# Altium footprint library IMPORT PCB1.PcbLib: 21 footprints (part 1 of 2)
Each footprint in its own frame and in the unit in brackets; x right, y up, seen from the top. Pads: shape width x height; smd on the part's side, far side on the other; paste and mask are expansions set on the pad; w line width, h text height; cw(c..) or ccw(c..) is an arc to the next point about the centre after c.
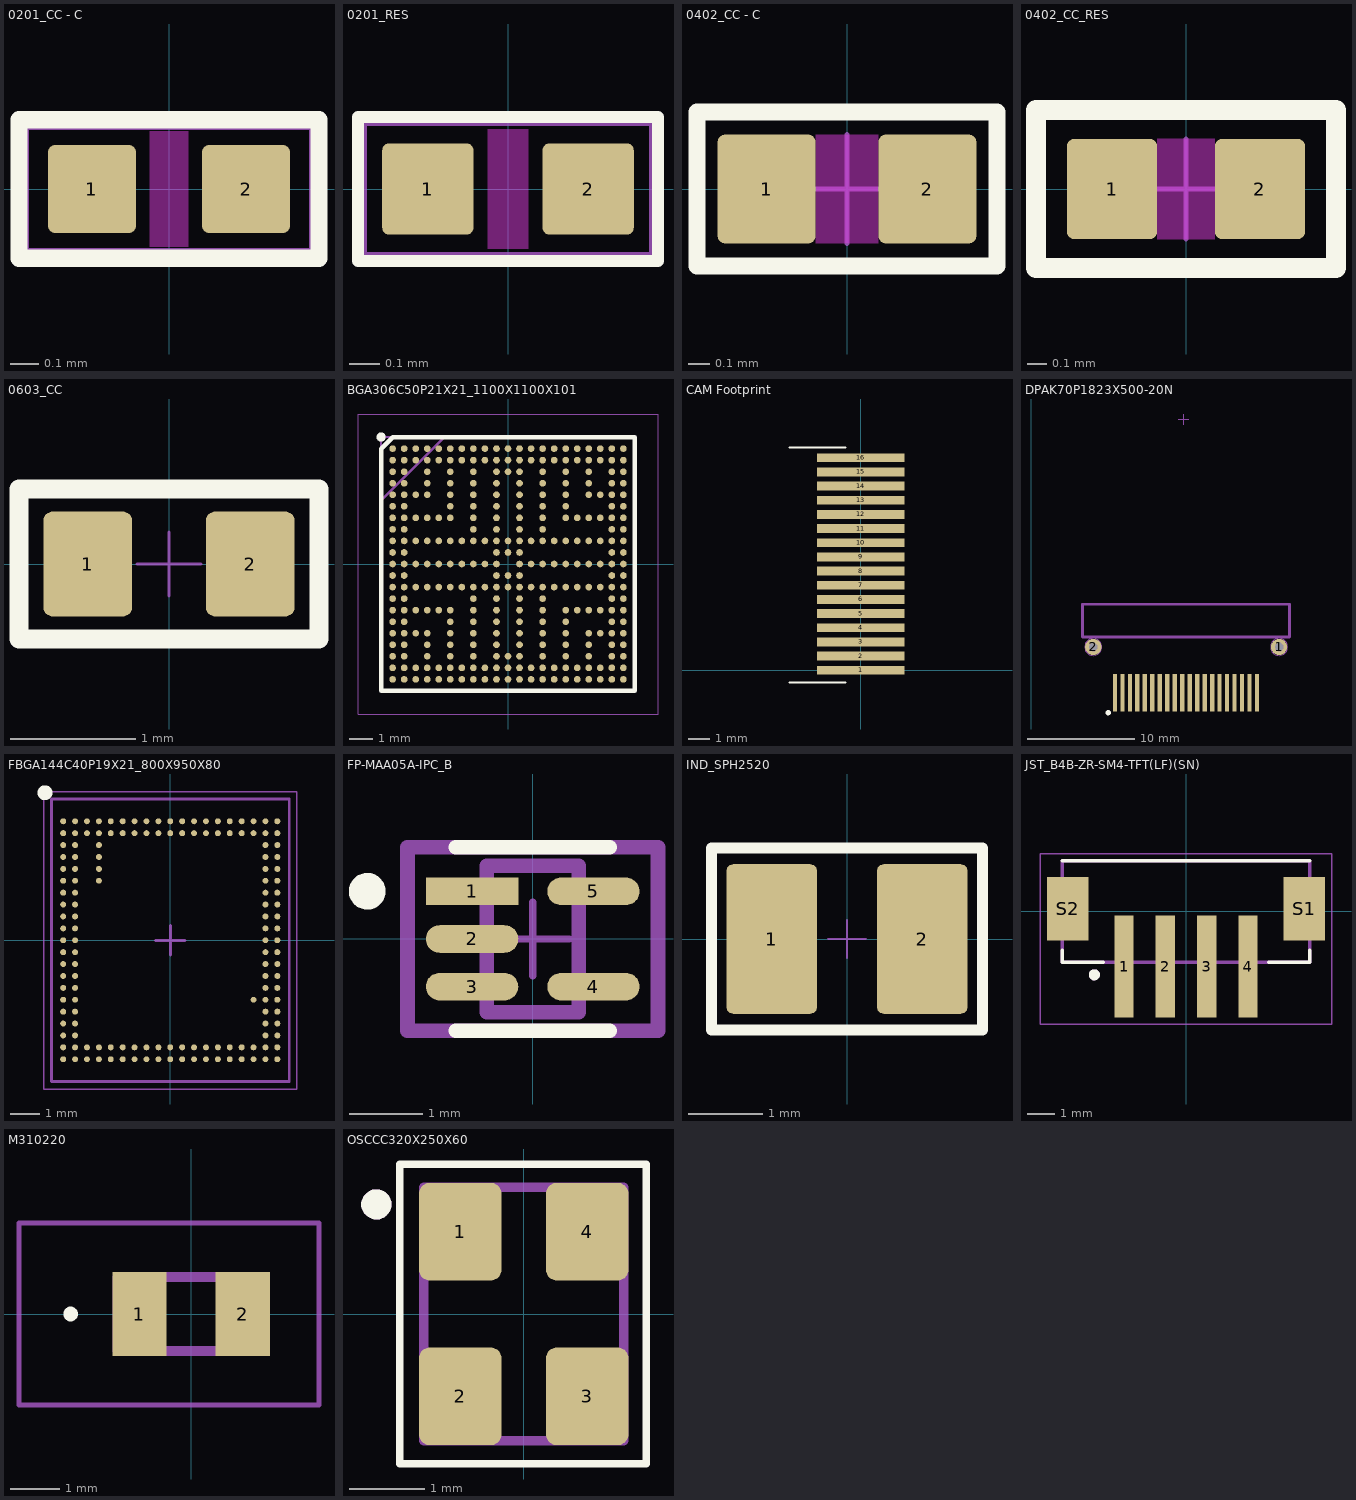
[diagram p0: the footprints below, top view; thin cyan lines are the x and y axes]

## 0201_CC - C [mil] "0201_CC\By AAR"
pads (2):
  rrect15% 12x12 smd mask+1.97: 1(-10.51,0) 2(10.51,0)
Top Layer keep-out:
  region: -2.64,7.87 -2.64,-7.87 2.64,-7.87 2.64,7.87
  region: -2.64,7.87 -2.64,-7.87 2.64,-7.87 2.64,7.87
Top Overlay:
  lines w2.36: -20.47,-9.45 -20.47,9.45 20.47,9.45 20.47,-9.45 -20.47,-9.45
Mechanical 11:
  lines w1.18: -19.68,-8.66 -19.68,8.66 19.68,8.66 19.68,-8.66 -19.68,-8.66
3D body "User Library-CerCaps_0201.STEP": height 12.3, standoff -0.49, extent -14.17,-6.39 14.18,6.4

## 0201_RES [mil] "0201_CC\By AAR"
pads (2):
  rrect15% 12x12 smd mask+1.97: 1(-10.51,0) 2(10.51,0)
Top Layer keep-out:
  region: -2.64,7.87 -2.64,-7.87 2.64,-7.87 2.64,7.87
  region: -2.64,7.87 -2.64,-7.87 2.64,-7.87 2.64,7.87
Top Overlay:
  lines w1.57: -19.68,-9.45 19.68,-9.45 19.68,9.45 -19.68,9.45 -19.68,-9.45
Mechanical 11:
  lines w0.79: -18.9,-8.66 18.9,-8.66 18.9,8.66 -18.9,8.66 -18.9,-8.66
3D body "User Library-User Library-0201_Res.STEP": height 12.01, standoff 0, extent -17.33,-5.91 17.32,5.9

## 0402_CC - C [mil] "0402_CC\By AAR"
pads (2):
  rrect15% 18x20 smd mask+1.97: 1(-14.76,0) 2(14.76,0)
Top Layer keep-out:
  region: -5.75,10 -5.75,-10 5.75,-10 5.75,10
  region: -5.75,10 -5.75,-10 5.75,-10 5.75,10
Top Overlay:
  lines w3.15: -27.56,-14.17 -27.56,14.17 27.56,14.17 27.56,-14.17 -27.56,-14.17
Mechanical 9:
  lines w1: -10,0 10,0 ; 0,-10 0,10
3D body "User Library-CerCaps_0402.STEP": height 20.18, standoff -0.49, extent -23.42,-10.33 23.43,10.34

## 0402_CC_RES [mil] "0402_CC_INDUCTOR\By AAR"
pads (2):
  rrect15% 18x20 smd mask+3.15: 1(-14.76,0) 2(14.76,0)
Top Layer keep-out:
  region: -5.75,10 -5.75,-10 5.75,-10 5.75,10
  region: -5.75,10 -5.75,-10 5.75,-10 5.75,10
Top Overlay:
  lines w3.94: -29.92,-15.75 29.92,-15.75 29.92,15.75 -29.92,15.75 -29.92,-15.75
Mechanical 9:
  lines w1: -10,0 10,0 ; 0,-10 0,10
3D body "742843122.stp": height 18.9, standoff -0.79, extent -19.68,-9.85 19.69,9.84

## 0603_CC [mil] "CAP_NP_0603_CC_DISCRETE_1MM_150\By AAR"
pads (2):
  rrect20% 28x33 smd mask+3.15: 1(-25.59,0) 2(25.59,0)
Top Overlay:
  lines w5.91: -47.24,-23.62 47.24,-23.62 47.24,23.62 -47.24,23.62 -47.24,-23.62
Mechanical 9:
  lines w1: -10,0 10,0 ; 0,-10 0,10
3D body "User Library-CerCaps_0603.STEP": height 31.99, standoff -0.49, extent -36.61,-16.23 36.62,16.25

## BGA306C50P21X21_1100X1100X101 [mm]
pads (306):
  round 0.29 smd: A1(-5,5) A2(-4.5,5) A3(-4,5) A4(-3.5,5) A5(-3,5) A6(-2.5,5) A7(-2,5) A8(-1.5,5) A9(-1,5) A10(-0.5,5) A11(0,5) A12(0.5,5) A13(1,5) A14(1.5,5) A15(2,5) A16(2.5,5) A17(3,5) A18(3.5,5) A19(4,5) A20(4.5,5) A21(5,5) AA1(-5,-5) AA2(-4.5,-5) AA3(-4,-5) AA4(-3.5,-5) AA5(-3,-5) AA6(-2.5,-5) AA7(-2,-5) AA8(-1.5,-5) AA9(-1,-5) AA10(-0.5,-5) AA11(0,-5) AA12(0.5,-5) AA13(1,-5) AA14(1.5,-5) AA15(2,-5) AA16(2.5,-5) AA17(3,-5) AA18(3.5,-5) AA19(4,-5) AA20(4.5,-5) AA21(5,-5) B1(-5,4.5) B2(-4.5,4.5) B3(-4,4.5) B4(-3.5,4.5) B5(-3,4.5) B6(-2.5,4.5) B7(-2,4.5) B8(-1.5,4.5) B9(-1,4.5) B10(-0.5,4.5) B11(0,4.5) B12(0.5,4.5) B13(1,4.5) B14(1.5,4.5) B15(2,4.5) B16(2.5,4.5) B17(3,4.5) B18(3.5,4.5) B19(4,4.5) B20(4.5,4.5) B21(5,4.5) C1(-5,4) C2(-4.5,4) C4(-3.5,4) C6(-2.5,4) C8(-1.5,4) C10(-0.5,4) C11(0,4) C12(0.5,4) C14(1.5,4) C16(2.5,4) C18(3.5,4) C20(4.5,4) C21(5,4) D1(-5,3.5) D2(-4.5,3.5) D4(-3.5,3.5) D6(-2.5,3.5) D8(-1.5,3.5) D10(-0.5,3.5) D12(0.5,3.5) D14(1.5,3.5) D16(2.5,3.5) D18(3.5,3.5) D20(4.5,3.5) D21(5,3.5) E1(-5,3) E2(-4.5,3) E3(-4,3) E4(-3.5,3) E6(-2.5,3) E8(-1.5,3) E10(-0.5,3) E12(0.5,3) E14(1.5,3) E16(2.5,3) E18(3.5,3) E19(4,3) E20(4.5,3) E21(5,3) F1(-5,2.5) F2(-4.5,2.5) F6(-2.5,2.5) F8(-1.5,2.5) F10(-0.5,2.5) F12(0.5,2.5) F14(1.5,2.5) F16(2.5,2.5) F20(4.5,2.5) F21(5,2.5) G1(-5,2) G2(-4.5,2) G3(-4,2) G4(-3.5,2) G5(-3,2) G6(-2.5,2) G8(-1.5,2) G10(-0.5,2) G12(0.5,2) G14(1.5,2) G16(2.5,2) G17(3,2) G18(3.5,2) G19(4,2) G20(4.5,2) G21(5,2) H1(-5,1.5) H2(-4.5,1.5) H8(-1.5,1.5) H10(-0.5,1.5) H12(0.5,1.5) H14(1.5,1.5) H20(4.5,1.5) H21(5,1.5) J1(-5,1) J2(-4.5,1) J3(-4,1) J4(-3.5,1) J5(-3,1) J6(-2.5,1) J7(-2,1) J8(-1.5,1) J9(-1,1) J10(-0.5,1) J11(0,1) J12(0.5,1) J13(1,1) J14(1.5,1) J15(2,1) J16(2.5,1) J17(3,1) J18(3.5,1) J19(4,1) J20(4.5,1) J21(5,1) K1(-5,0.5) K2(-4.5,0.5) K10(-0.5,0.5) K11(0,0.5) K12(0.5,0.5) K20(4.5,0.5) K21(5,0.5) L1(-5,0) L2(-4.5,0) L3(-4,0) L4(-3.5,0) L5(-3,0) L6(-2.5,0) L7(-2,0) L8(-1.5,0) L9(-1,0) L10(-0.5,0) L12(0.5,0) L13(1,0) L14(1.5,0) L15(2,0) L16(2.5,0) L17(3,0) L18(3.5,0) L19(4,0) L20(4.5,0) L21(5,0) M1(-5,-0.5) M2(-4.5,-0.5) M10(-0.5,-0.5) M11(0,-0.5) M12(0.5,-0.5) M20(4.5,-0.5) M21(5,-0.5) N1(-5,-1) N2(-4.5,-1) N3(-4,-1) N4(-3.5,-1) N5(-3,-1) N6(-2.5,-1) N7(-2,-1) N8(-1.5,-1) N9(-1,-1) N10(-0.5,-1) N11(0,-1) N12(0.5,-1) N13(1,-1) N14(1.5,-1) N15(2,-1) N16(2.5,-1) N17(3,-1) N18(3.5,-1) N19(4,-1) N20(4.5,-1) N21(5,-1) P1(-5,-1.5) P2(-4.5,-1.5) P8(-1.5,-1.5) P10(-0.5,-1.5) P12(0.5,-1.5) P14(1.5,-1.5) P20(4.5,-1.5) P21(5,-1.5) R1(-5,-2) R2(-4.5,-2) R3(-4,-2) R4(-3.5,-2) R5(-3,-2) R6(-2.5,-2) R8(-1.5,-2) R10(-0.5,-2) R12(0.5,-2) R14(1.5,-2) R16(2.5,-2) R17(3,-2) R18(3.5,-2) R19(4,-2) R20(4.5,-2) R21(5,-2) T1(-5,-2.5) T2(-4.5,-2.5) T6(-2.5,-2.5) T8(-1.5,-2.5) T10(-0.5,-2.5) T12(0.5,-2.5) T14(1.5,-2.5) T16(2.5,-2.5) T20(4.5,-2.5) T21(5,-2.5) U1(-5,-3) U2(-4.5,-3) U3(-4,-3) U4(-3.5,-3) U6(-2.5,-3) U8(-1.5,-3) U10(-0.5,-3) U12(0.5,-3) U14(1.5,-3) U16(2.5,-3) U18(3.5,-3) U19(4,-3) U20(4.5,-3) U21(5,-3) V1(-5,-3.5) V2(-4.5,-3.5) V4(-3.5,-3.5) V6(-2.5,-3.5) V8(-1.5,-3.5) V10(-0.5,-3.5) V12(0.5,-3.5) V14(1.5,-3.5) V16(2.5,-3.5) V18(3.5,-3.5) V20(4.5,-3.5) V21(5,-3.5) W1(-5,-4) W2(-4.5,-4) W4(-3.5,-4) W6(-2.5,-4) W8(-1.5,-4) W10(-0.5,-4) W11(0,-4) W12(0.5,-4) W14(1.5,-4) W16(2.5,-4) W18(3.5,-4) W20(4.5,-4) W21(5,-4) Y1(-5,-4.5) Y2(-4.5,-4.5) Y3(-4,-4.5) Y4(-3.5,-4.5) Y5(-3,-4.5) Y6(-2.5,-4.5) Y7(-2,-4.5) Y8(-1.5,-4.5) Y9(-1,-4.5) Y10(-0.5,-4.5) Y11(0,-4.5) Y12(0.5,-4.5) Y13(1,-4.5) Y14(1.5,-4.5) Y15(2,-4.5) Y16(2.5,-4.5) Y17(3,-4.5) Y18(3.5,-4.5) Y19(4,-4.5) Y20(4.5,-4.5) Y21(5,-4.5)
Top Overlay:
  circle w0.2: c-5.5,5.5 r0.1
  lines w0.2: -5.5,-5.5 -5.5,5 -5,5.5 5.5,5.5 5.5,-5.5 -5.5,-5.5
Mechanical 15:
  lines w0.1: -5.5,2.75 -2.75,5.5 ; -5.5,-5.5 -5.5,5.5 5.5,5.5 5.5,-5.5 -5.5,-5.5
Mechanical 20:
  lines w0.05: -6.5,-6.5 -6.5,6.5 6.5,6.5 6.5,-6.5 -6.5,-6.5
3D body "MIMX8MN5DVPIZAA.stp": height 1.01, standoff 0, extent -5.5,-5.5 5.5,5.5

## CAM Footprint [mm]
pads (16):
  rect 4x0.4 smd: 1(0,0) 2(0,0.647) 3(0,1.295) 4(0,1.942) 5(0,2.59) 6(0,3.237) 7(0,3.885) 8(0,4.532) 9(0,5.18) 10(0,5.827) 11(0,6.475) 12(0,7.122) 13(0,7.77) 14(0,8.417) 15(0,9.065) 16(0,9.712)
Top Overlay:
  lines w0.1: -3.263,-0.559 -0.698,-0.559 ; -3.263,10.185 -0.698,10.185
  text "." at -0.038,-0.584 h0.38

## DPAK70P1823X500-20N [mm] "D3-PAK, 20-Pads, Body 16.41x17.53mm (max), IPC Medium Density"
height 5
pads (22):
  rect 0.4x3.5 smd: 1(7.82,-29.625) 2(8.52,-29.625) 3(9.22,-29.625) 4(9.92,-29.625) 5(10.62,-29.625) 6(11.32,-29.625) 7(12.02,-29.625) 8(12.72,-29.625) 9(13.42,-29.625) 10(14.12,-29.625) 11(14.82,-29.625) 12(15.52,-29.625) 13(16.22,-29.625) 14(16.92,-29.625) 15(17.62,-29.625) 16(18.32,-29.625) 17(19.02,-29.625) 18(19.72,-29.625) 19(20.42,-29.625) 20(21.12,-29.625)
  round 1.524 hole 0.8: 1(23.19,-25.34) 2(5.79,-25.34)
Top Overlay:
  circle w0.25: c7.19,-31.49 r0.125
Mechanical 13:
  circle w0.05: c5.79,-25.34 r0.8
  circle w0.05: c23.19,-25.34 r0.8
Mechanical 15:
  lines w0.1: 13.747,-4.02 14.747,-4.02 ; 14.247,-4.52 14.247,-3.52
  lines w0.254: 4.774,-24.396 24.174,-24.396 24.174,-21.346 4.774,-21.346 4.774,-24.396
3D body: height 2, standoff 0, extent 0.75,-19.54 27.6,-0.65
3D body: height 1.9, standoff -0.25, extent 0,-20.29 28.34,0
3D body: height 2.1, standoff 0, extent 2.1,-15.04 26.28,-1.94
3D body: height 0.1, standoff -0.25, extent 6.854,-31.865 22.094,-27.166
3D body: height 0.25, standoff -0.25, extent 4.774,-27.166 24.174,-20.346
3D body: height 0.25, standoff -0.25, extent 4.774,-24.396 24.174,-21.346

## FBGA144C40P19X21_800X950X80 [mm] "BGA, 144-Leads, Body 8.00x9.50mmx0.80mm, Pitch 0.40mm"
height 0.8
pads (149):
  round 0.2 smd: A1(-3.6,4) A2(-3.2,4) A3(-2.8,4) A4(-2.4,4) A5(-2,4) A6(-1.6,4) A7(-1.2,4) A8(-0.8,4) A9(-0.4,4) A10(0,4) A11(0.4,4) A12(0.8,4) A13(1.2,4) A14(1.6,4) A15(2,4) A16(2.4,4) A17(2.8,4) A18(3.2,4) A19(3.6,4) AA1(-3.6,-4) AA2(-3.2,-4) AA3(-2.8,-4) AA4(-2.4,-4) AA5(-2,-4) AA6(-1.6,-4) AA7(-1.2,-4) AA8(-0.8,-4) AA9(-0.4,-4) AA10(0,-4) AA11(0.4,-4) AA12(0.8,-4) AA13(1.2,-4) AA14(1.6,-4) AA15(2,-4) AA16(2.4,-4) AA17(2.8,-4) AA18(3.2,-4) AA19(3.6,-4) B1(-3.6,3.6) B2(-3.2,3.6) B3(-2.8,3.6) B4(-2.4,3.6) B5(-2,3.6) B6(-1.6,3.6) B7(-1.2,3.6) B8(-0.8,3.6) B9(-0.4,3.6) B10(0,3.6) B11(0.4,3.6) B12(0.8,3.6) B13(1.2,3.6) B14(1.6,3.6) B15(2,3.6) B16(2.4,3.6) B17(2.8,3.6) B18(3.2,3.6) B19(3.6,3.6) C1(-3.6,3.2) C2(-3.2,3.2) C18(3.2,3.2) C19(3.6,3.2) D1(-3.6,2.8) D2(-3.2,2.8) D18(3.2,2.8) D19(3.6,2.8) E1(-3.6,2.4) E2(-3.2,2.4) E18(3.2,2.4) E19(3.6,2.4) F1(-3.6,2) F2(-3.2,2) F18(3.2,2) F19(3.6,2) G1(-3.6,1.6) G2(-3.2,1.6) G18(3.2,1.6) G19(3.6,1.6) H1(-3.6,1.2) H2(-3.2,1.2) H18(3.2,1.2) H19(3.6,1.2) J1(-3.6,0.8) J2(-3.2,0.8) J18(3.2,0.8) J19(3.6,0.8) K1(-3.6,0.4) K2(-3.2,0.4) K18(3.2,0.4) K19(3.6,0.4) L1(-3.6,0) L2(-3.2,0) L18(3.2,0) L19(3.6,0) M1(-3.6,-0.4) M2(-3.2,-0.4) M18(3.2,-0.4) M19(3.6,-0.4) N1(-3.6,-0.8) N2(-3.2,-0.8) N18(3.2,-0.8) N19(3.6,-0.8) P1(-3.6,-1.2) P2(-3.2,-1.2) P18(3.2,-1.2) P19(3.6,-1.2) R1(-3.6,-1.6) R2(-3.2,-1.6) R18(3.2,-1.6) R19(3.6,-1.6) T(-2.4,2) T(-2.4,2.4) T(-2.4,2.8) T(-2.4,3.2) T1(-3.6,-2) T2(-3.2,-2) T18(2.8,-2) T18(3.2,-2) T19(3.6,-2) U1(-3.6,-2.4) U2(-3.2,-2.4) U18(3.2,-2.4) U19(3.6,-2.4) V1(-3.6,-2.8) V2(-3.2,-2.8) V18(3.2,-2.8) V19(3.6,-2.8) W1(-3.6,-3.2) W2(-3.2,-3.2) W18(3.2,-3.2) W19(3.6,-3.2) Y1(-3.6,-3.6) Y2(-3.2,-3.6) Y3(-2.8,-3.6) Y4(-2.4,-3.6) Y5(-2,-3.6) Y6(-1.6,-3.6) Y7(-1.2,-3.6) Y8(-0.8,-3.6) Y9(-0.4,-3.6) Y10(0,-3.6) Y11(0.4,-3.6) Y12(0.8,-3.6) Y13(1.2,-3.6) Y14(1.6,-3.6) Y15(2,-3.6) Y16(2.4,-3.6) Y17(2.8,-3.6) Y18(3.2,-3.6) Y19(3.6,-3.6)
Top Overlay:
  circle w0.25: c-4.21,4.96 r0.125
Mechanical 13:
  lines w0.1: -4,-4.75 4,-4.75 4,4.75 -4,4.75 -4,-4.75
Mechanical 15:
  lines w0.05: -4.25,-5 4.25,-5 4.25,5 -4.25,5 -4.25,-5
  lines w0.1: -0.5,0 0.5,0 ; 0,-0.5 0,0.5
3D body: height 0.8, standoff 0, extent -4,-4.75 4,4.75

## FP-MAA05A-IPC_B [mm]
pads (5):
  rect 1.258x0.376 smd paste+0 mask+0: 1(-0.827,0.65)
  rrect100% 1.258x0.376 smd paste+0 mask+0: 2(-0.827,0) 3(-0.827,-0.65) 4(0.827,-0.65) 5(0.827,0.65)
Top Overlay:
  circle w0.25: c-2.256,0.65 r0.125
  lines w0.2: -1.05,-1.25 1.05,-1.25 ; -1.05,1.25 1.05,1.25
Top Courtyard:
  lines w0.2: -1.706,-1.25 -1.706,1.25 1.706,1.25 1.706,-1.25 -1.706,-1.25
Top 3D Body:
  lines w0.2: -0.625,-1 -0.625,1 0.625,1 0.625,-1 -0.625,-1
Top Assembly:
  lines w0.2: -1.706,-1.25 -1.706,1.25 1.706,1.25 1.706,-1.25 -1.706,-1.25
  text ".Designator" at 0,-0.001 h1
Top Component Center:
  lines w0.1: -0.5,0 0.5,0 ; 0,-0.5 0,0.5
3D body "IC_ON_Semiconductor_NC7SP125P5X_eec.STEP": height 0.25, standoff 0, extent -1.706,-1.25 1.706,1.25

## IND_SPH2520 [mil] "INDUCTOR_IND_SPH2520_DISCRETE_1\By AAR"
pads (2):
  rrect15% 48x79 smd mask+3.94: 1(-39.75,0) 2(39.75,0)
Top Overlay:
  lines w5.91: -71.65,-48.03 -71.65,48.03 71.65,48.03 71.65,-48.03 -71.65,-48.03
Mechanical 9:
  lines w1: -10,0 10,0 ; 0,-10 0,10
Mechanical46:
  text "1" at -29.91,-3.49 h10
  text "2" at 49.59,-2.82 h10
3D body "WPN252012H v4.step": height 53.15, standoff 0, extent -48.82,-39.37 49.61,39.37

## JST_B4B-ZR-SM4-TFT(LF)(SN) [mm]
pads (6):
  rect 0.7x3.7 smd: 1(-2.25,-2) 2(-0.75,-2) 3(0.75,-2) 4(2.25,-2)
  rect 1.5x2.3 smd: S1(4.3,0.1) S2(-4.3,0.1)
Top Overlay:
  circle w0.2: c-3.331,-2.3 r0.1
  lines w0.127: -4.5,-1.4 -4.5,-1.85 -3,-1.85 ; -4.5,1.85 4.5,1.85 ; 3,-1.85 4.5,-1.85 4.5,-1.4
Mechanical 13:
  circle w0.2: c-3.331,-2.3 r0.1
  lines w0.127: -4.5,-1.85 -4.5,1.85 4.5,1.85 4.5,-1.85 -4.5,-1.85
Mechanical 15:
  lines w0.05: -5.3,-4.1 -5.3,2.1 5.3,2.1 5.3,-4.1 -5.3,-4.1
3D body "step_temp.STEP": height 5, standoff 0, extent -4.5,-3.35 4.5,1.85

## M310220 [mm]
pads (2):
  rect 1.1x1.7 smd: 1(-1.05,0) 2(1.05,0)
Top Overlay:
  lines w0.2: -2.5,0 ccw(c-2.45,0) -2.4,0 ; -2.5,0 cw(c-2.45,0) -2.4,0 ; -2.5,0 ccw(c-2.45,0) -2.4,0
Mechanical 15:
  lines w0.2: -1.5,-0.75 -1.5,0.75 1.5,0.75 1.5,-0.75 -1.5,-0.75
Mechanical 20:
  lines w0.1: -3.5,-1.85 -3.5,1.85 2.6,1.85 2.6,-1.85 -3.5,-1.85
3D body "M310220.STEP": height 1.08, standoff 0, extent -1.525,-0.75 1.475,0.75

## NC7SP [mm]
Top Layer:
  text "NX3008NBKW,115" at -920.623,367.411 h1.52

## NX3008NBKW,115 [mm]

## OSCCC320X250X60 [mm]
pads (4):
  rrect25% 1.09x1.29 smd: 1(-0.84,1.09) 2(-0.84,-1.09) 3(0.84,-1.09) 4(0.84,1.09)
Top Overlay:
  circle w0.2: c-1.95,1.45 r0.1
  lines w0.1: -1.64,-1.98 -1.64,1.98 1.62,1.98 1.62,-1.98 -1.64,-1.98
Top Courtyard:
  lines w0.05: -1.635,-1.985 -1.635,1.985 1.635,1.985 1.635,-1.985 -1.635,-1.985
Top 3D Body:
  circle w0.2: c-1.95,1.45 r0.1
  lines w0.127: -1.325,-1.675 -1.325,1.675 1.325,1.675 1.325,-1.675 -1.325,-1.675
3D body "User Library-ECX-32.STEP": height 0.83, standoff 0.02, extent -1.251,-1.601 1.251,1.601